# Altium integrated library pcb-altiumwkshp-library.IntLib: 5 symbols
Pins are listed as number, name and electrical type; pins without a type are passive.

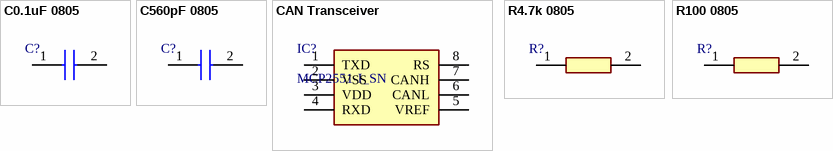
[diagram p0: symbols C0.1uF 0805 to R100 0805]

## C0.1uF 0805
designator C?, comment 08051C104KAT2A  (value not drawn)
Capacitor 0805 0.1uF; Manufacturer_Name: AVX; Datasheet Link: http://docs-emea.rs-online.com/webdocs/147b/0900766b8147bd55.pdf; Height: 1.4mm; Manufacturer_Part_Number: 08051C104KAT2A; Arrow Part Number: 08051C104KAT2A; Mouser Part Number: 581-08051C104KAT2A; Mouser Price/Stock: https://www.mouser.co.uk/ProductDetail/AVX/08051C104KAT2A?qs=omIp11HNRpEV3bcxtqpA3g%3D%3D
footprint CAPC2012X140N
pins: 1, 2

## C560pF 0805
designator C?, comment C0805C561J5GACTU  (value not drawn)
Capacitor 0805 560pF; Manufacturer_Name: Kemet; Datasheet Link: https://search.kemet.com/component-edge/download/specsheet/C0805C561J5GACTU.pdf; Height: 0.88mm; Manufacturer_Part_Number: C0805C561J5GACTU; Arrow Part Number: C0805C561J5GACTU; Mouser Part Number: 80-C0805C561J5G; Mouser Price/Stock: http://www.mouser.com/Search/ProductDetail.aspx?qs=%252bJCGD3sFoyB2icKFXhumFQ%3d%3d
footprint CAPC2012X88N
pins: 1, 2

## CAN Transceiver
designator IC?, comment MCP2551-I_SN
Integrated Circuit; Manufacturer_Name: Microchip; Manufacturer_Part_Number: MCP2551-I/SN; Datasheet Link: http://docs-emea.rs-online.com/webdocs/0a78/0900766b80a78cdb.pdf; Height: 1.75mm; Arrow Part Number: MCP2551-I/SN; Arrow Price/Stock: https://www.arrow.com/en/products/mcp2551-isn/microchip-technology; Mouser Part Number: 579-MCP2551-I/SN; Mouser Price/Stock: https://www.mouser.co.uk/ProductDetail/Microchip-Technology/MCP2551-I-SN?qs=9y3LFqDLL8L5zFfqqxdOHg%3D%3D
footprint SOIC127P600X175-8N
pins: 1 TXD, 2 VSS, 3 VDD, 4 RXD, 5 VREF, 6 CANL, 7 CANH, 8 RS

## R4.7k 0805
designator R?, comment RT0805FRE074K7L  (value not drawn)
Yageo 1%; Manufacturer_Name: YAGEO (PHYCOMP); Datasheet Link: https://componentsearchengine.com/Datasheets/1/RT0805FRE074K7L.pdf; Height: 0.6mm; Manufacturer_Part_Number: RT0805FRE074K7L; Mouser Part Number: 603-RT0805FRE074K7L; Mouser Price/Stock: https://www.mouser.com/Search/Refine.aspx?Keyword=603-RT0805FRE074K7L; Unit Price: 0.12
footprint RESC2012X60N
pins: 1, 2

## R100 0805
designator R?, comment RT0805FRE07100RL  (value not drawn)
Yageo 1%; Manufacturer_Name: YAGEO (PHYCOMP); Datasheet Link: https://www.mouser.com/datasheet/2/447/PYu-RT_1-to-0.01_RoHS_L_11-1669912.pdf; Height: 0.6mm; Manufacturer_Part_Number: RT0805FRE07100RL; Mouser Part Number: 603-RT0805FRE07100RL; Mouser Price/Stock: https://www.mouser.com/ProductDetail/Yageo/RT0805FRE07100RL?qs=2UBm2ZpWbY7tzpbwtgmePw%3D%3D; Unit Price: 0.12
footprint RESC2012X60N
pins: 1, 2